# EAGLE library part XC6220B331ER-G (library XC6220B331ER-G)
Linear Voltage Regulator IC Positive Fixed 1 Output 1A 6-USPC (1.8x2) Source: Datasheet <https://www.digikey.ph/en/products/detail/torex-semiconductor-ltd/XC6220B331ER-G/10166030?msockid=39f1ec84d77b6f4428b7f904d6676eed>
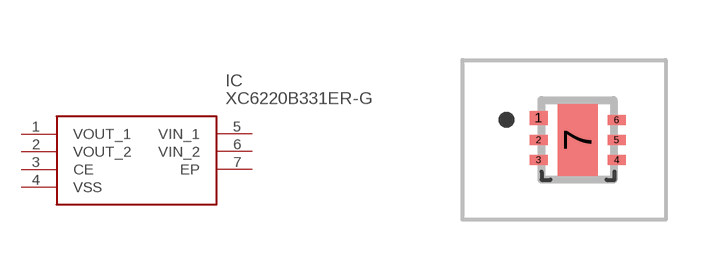
[diagram p0: symbol with the pads of XC6220B331ERG; footprint XC6220B331ERG]

Designator prefix IC

## XC6220B331ER-G (Description: Linear Voltage Regulator IC Positive Fixed 1 Output 1A 6-USPC (1.8x2); Height: 1mm; Manufacturer_Name: Torex; Manufacturer_Part_Number: XC6220B331ER-G; Mouser_Part_Number: 865-XC6220B331ER-G; Mouser_Price-Stock: https://www.mouser.co.uk/ProductDetail/Torex-Semiconductor/XC6220B331ER-G?qs=AsjdqWjXhJ%252BJj%252BEWI7nHIg%3D%3D)  [XC6220B331ERG]
1  VOUT_1
2  VOUT_2
3  CE
4  VSS
5  VIN_1
6  VIN_2
7  EP

## Footprint XC6220B331ERG (pad centres in mm)
XC6220B331ER-G
smd 0.45 x 0.35: 1 -0.525,0.55
smd 0.45 x 0.25: 2 -0.525,0; 3 -0.525,-0.5; 4 1.425,-0.5; 5 1.425,0; 6 1.425,0.5
smd 1 x 1.8: 7 0.45,0